# Altium schematic symbol library LP2980AIM5-5.0_5V_0A05.Schlib: 1 symbol
Pins are listed as number, name and electrical type; pins without a type are passive.

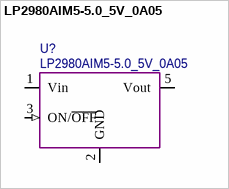
[diagram p0: symbol LP2980AIM5-5.0_5V_0A05]

## LP2980AIM5-5.0_5V_0A05
designator U?
pins: 1 Vin, 2 GND (power), 3 ON/~{OFF} (in), 5 Vout